# Altium footprint library ESQ-126-39-G-D_wide.PcbLib: 1 footprints
Each footprint in its own frame and in the unit in brackets; x right, y up, seen from the top. Pads: shape width x height; smd on the part's side, far side on the other; paste and mask are expansions set on the pad; w line width, h text height; cw(c..) or ccw(c..) is an arc to the next point about the centre after c.
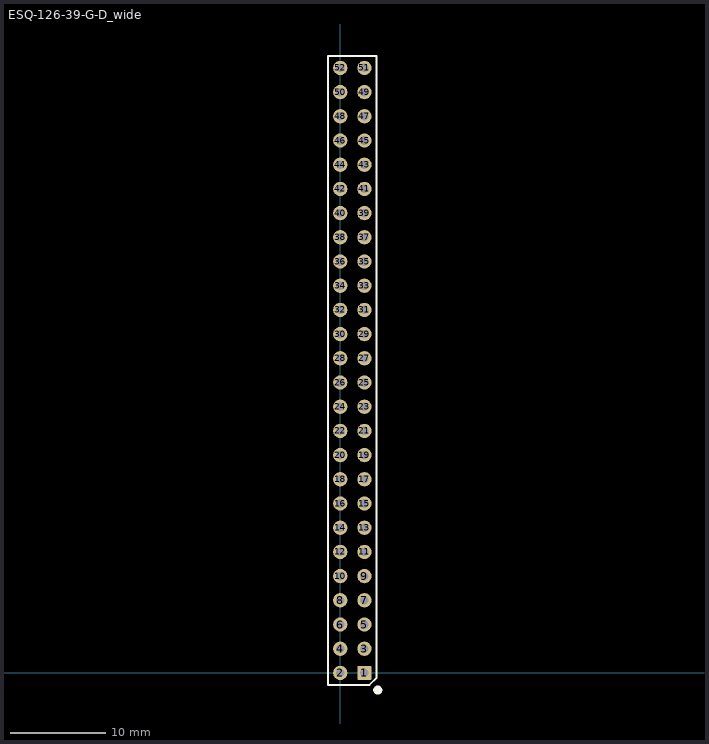
[diagram p0: the footprint, top view; thin cyan lines are the x and y axes]

## ESQ-126-39-G-D_wide [mm] ".100\" PC/10 Elevated Socket Strip"
pads (52):
  rrect20% 1.5x1.5 hole 0.9: 1(2.54,0)
  round 1.5 hole 0.9: 2(0,0) 3(2.54,2.54) 4(0,2.54) 5(2.54,5.08) 6(0,5.08) 7(2.54,7.62) 8(0,7.62) 9(2.54,10.16) 10(0,10.16) 11(2.54,12.7) 12(0,12.7) 13(2.54,15.24) 14(0,15.24) 15(2.54,17.78) 16(0,17.78) 17(2.54,20.32) 18(0,20.32) 19(2.54,22.86) 20(0,22.86) 21(2.54,25.4) 22(0,25.4) 23(2.54,27.94) 24(0,27.94) 25(2.54,30.48) 26(0,30.48) 27(2.54,33.02) 28(0,33.02) 29(2.54,35.56) 30(0,35.56) 31(2.54,38.1) 32(0,38.1) 33(2.54,40.64) 34(0,40.64) 35(2.54,43.18) 36(0,43.18) 37(2.54,45.72) 38(0,45.72) 39(2.54,48.26) 40(0,48.26) 41(2.54,50.8) 42(0,50.8) 43(2.54,53.34) 44(0,53.34) 45(2.54,55.88) 46(0,55.88) 47(2.54,58.42) 48(0,58.42) 49(2.54,60.96) 50(0,60.96) 51(2.54,63.5) 52(0,63.5)
Top Overlay:
  circle w0.5: c3.94,-1.8 r0.224
  lines w0.2: -1.27,-1.27 3.07,-1.27 3.81,-0.53 3.81,64.77 -1.27,64.77 -1.27,-1.27
3D body "User Library-PBD-26.step": height 8.4, standoff -2.7, extent -1.27,-1.27 3.81,31.75
3D body "User Library-PBD-26.step": height 8.4, standoff -2.7, extent -1.27,31.75 3.81,64.77